# Altium footprint library Meshtastic.PcbLib: 7 footprints
Each footprint in its own frame and in the unit in brackets; x right, y up, seen from the top. Pads: shape width x height; smd on the part's side, far side on the other; paste and mask are expansions set on the pad; w line width, h text height; cw(c..) or ccw(c..) is an arc to the next point about the centre after c.
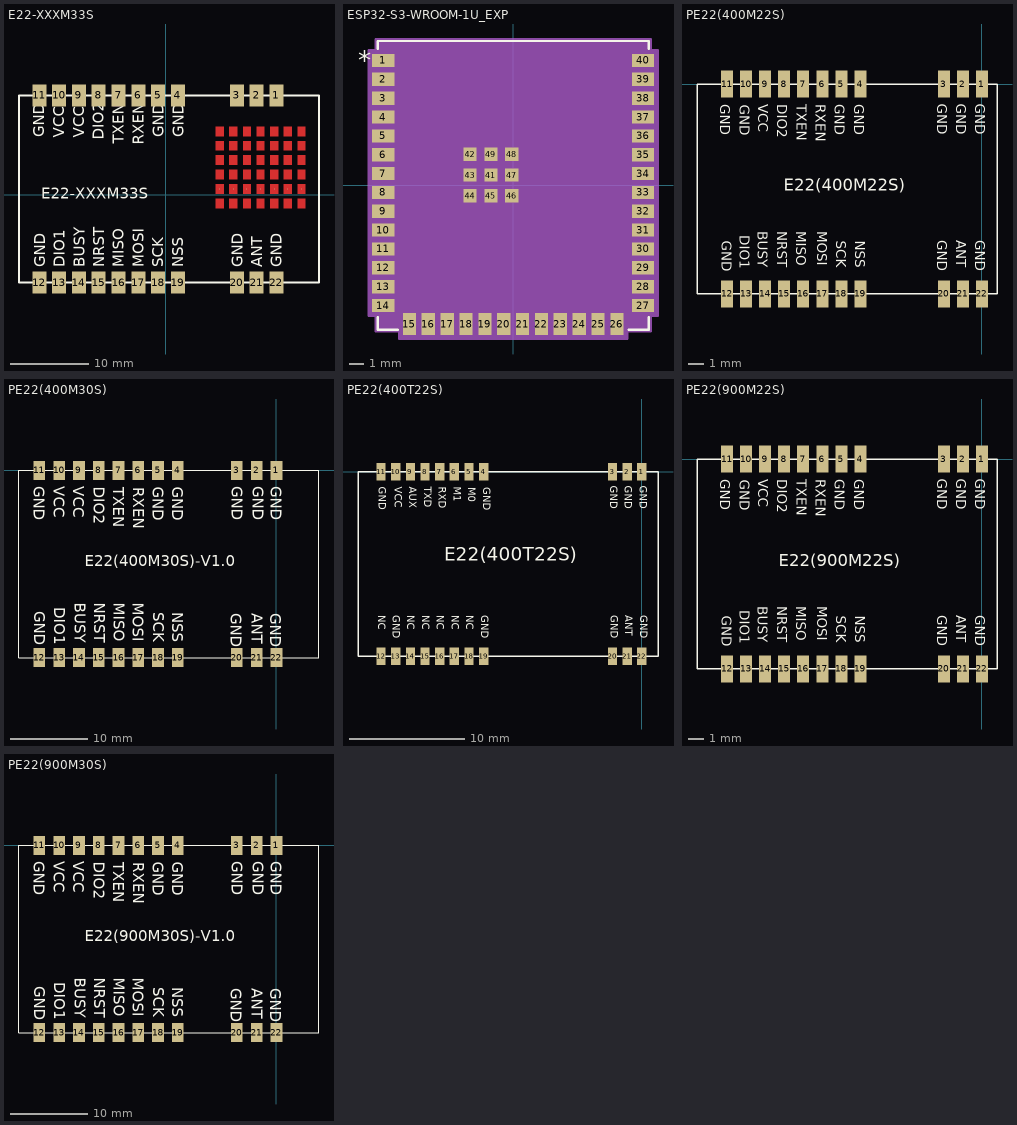
[diagram p0: the footprints below, top view; thin cyan lines are the x and y axes]

## E22-XXXM33S [mm]
pads (64):
  rect 1.8x2.8 smd mask+0: 1(14.19,12.725) 2(11.65,12.725) 3(9.11,12.725) 4(1.54,12.725) 5(-1,12.725) 6(-3.54,12.725) 7(-6.08,12.725) 8(-8.62,12.725) 9(-11.16,12.725) 10(-13.7,12.725) 11(-16.24,12.725) 12(-16.24,-11.275) 13(-13.7,-11.275) 14(-11.16,-11.275) 15(-8.62,-11.275) 16(-6.08,-11.275) 17(-3.54,-11.275) 18(-1,-11.275) 19(1.54,-11.275) 20(9.11,-11.275) 21(11.65,-11.275) 22(14.19,-11.275)
  round 0.025 smd mask+0.01: 22(6.9,-1.125) 22(6.9,0.725) 22(6.9,2.575) 22(6.9,4.425) 22(6.9,6.275) 22(6.9,8.125) 22(8.65,-1.125) 22(8.65,0.725) 22(8.65,2.575) 22(8.65,4.425) 22(8.65,6.275) 22(8.65,8.125) 22(10.4,-1.125) 22(10.4,0.725) 22(10.4,2.575) 22(10.4,4.425) 22(10.4,6.275) 22(10.4,8.125) 22(12.15,-1.125) 22(12.15,0.725) 22(12.15,2.575) 22(12.15,4.425) 22(12.15,6.275) 22(12.15,8.125) 22(13.9,-1.125) 22(13.9,0.725) 22(13.9,2.575) 22(13.9,4.425) 22(13.9,6.275) 22(13.9,8.125) 22(15.65,-1.125) 22(15.65,0.725) 22(15.65,2.575) 22(15.65,4.425) 22(15.65,6.275) 22(15.65,8.125) 22(17.4,-1.125) 22(17.4,0.725) 22(17.4,2.575) 22(17.4,4.425) 22(17.4,6.275) 22(17.4,8.125)
Top Layer:
  region: 9.15,7.525 8.15,7.525 8.15,8.725 9.15,8.725
  region: 10.9,7.525 9.9,7.525 9.9,8.725 10.9,8.725
  region: 12.65,7.525 11.65,7.525 11.65,8.725 12.65,8.725
  region: 14.4,7.525 13.4,7.525 13.4,8.725 14.4,8.725
  region: 17.9,7.525 16.9,7.525 16.9,8.725 17.9,8.725
  region: 9.15,5.675 8.15,5.675 8.15,6.875 9.15,6.875
  region: 10.9,5.675 9.9,5.675 9.9,6.875 10.9,6.875
  region: 12.65,5.675 11.65,5.675 11.65,6.875 12.65,6.875
  region: 14.4,5.675 13.4,5.675 13.4,6.875 14.4,6.875
  region: 16.15,5.675 15.15,5.675 15.15,6.875 16.15,6.875
  region: 17.9,5.675 16.9,5.675 16.9,6.875 17.9,6.875
  region: 9.15,3.825 8.15,3.825 8.15,5.025 9.15,5.025
  region: 10.9,3.825 9.9,3.825 9.9,5.025 10.9,5.025
  region: 12.65,3.825 11.65,3.825 11.65,5.025 12.65,5.025
  region: 14.4,3.825 13.4,3.825 13.4,5.025 14.4,5.025
  region: 16.15,3.825 15.15,3.825 15.15,5.025 16.15,5.025
  region: 17.9,3.825 16.9,3.825 16.9,5.025 17.9,5.025
  region: 9.15,1.975 8.15,1.975 8.15,3.175 9.15,3.175
  region: 10.9,1.975 9.9,1.975 9.9,3.175 10.9,3.175
  region: 12.65,1.975 11.65,1.975 11.65,3.175 12.65,3.175
  region: 14.4,1.975 13.4,1.975 13.4,3.175 14.4,3.175
  region: 16.15,1.975 15.15,1.975 15.15,3.175 16.15,3.175
  region: 17.9,1.975 16.9,1.975 16.9,3.175 17.9,3.175
  region: 9.15,0.125 8.15,0.125 8.15,1.325 9.15,1.325
  region: 9.15,-1.725 8.15,-1.725 8.15,-0.525 9.15,-0.525
  region: 10.9,0.125 9.9,0.125 9.9,1.325 10.9,1.325
  region: 10.9,-1.725 9.9,-1.725 9.9,-0.525 10.9,-0.525
  region: 12.65,0.125 11.65,0.125 11.65,1.325 12.65,1.325
  region: 12.65,-1.725 11.65,-1.725 11.65,-0.525 12.65,-0.525
  region: 14.4,0.125 13.4,0.125 13.4,1.325 14.4,1.325
  region: 14.4,-1.725 13.4,-1.725 13.4,-0.525 14.4,-0.525
  region: 16.15,0.125 15.15,0.125 15.15,1.325 16.15,1.325
  region: 16.15,-1.725 15.15,-1.725 15.15,-0.525 16.15,-0.525
  region: 17.9,0.125 16.9,0.125 16.9,1.325 17.9,1.325
  region: 17.9,-1.725 16.9,-1.725 16.9,-0.525 17.9,-0.525
  region: 7.4,7.525 6.4,7.525 6.4,8.725 7.4,8.725
  region: 16.15,7.525 15.15,7.525 15.15,8.725 16.15,8.725
  region: 7.4,5.675 6.4,5.675 6.4,6.875 7.4,6.875
  region: 7.4,3.825 6.4,3.825 6.4,5.025 7.4,5.025
  region: 7.4,1.975 6.4,1.975 6.4,3.175 7.4,3.175
  region: 7.4,0.125 6.4,0.125 6.4,1.325 7.4,1.325
  region: 7.4,-1.725 6.4,-1.725 6.4,-0.525 7.4,-0.525
Top Overlay:
  lines w0.254: -18.85,-11.275 19.65,-11.275 19.65,12.725 -18.85,12.725 -18.85,-11.275
  text "GND" at -15.608,7.364 h1.4
  text "GND" at 2.272,7.364 h1.4
  text "VCC" at -10.5,7.297 h1.4
  text "RXEN" at -2.837,6.411 h1.4
  text "VCC" at -13.054,7.297 h1.4
  text "DIO2" at -7.945,7.071 h1.4
  text "GND" at -0.282,7.364 h1.4
  text "TXEN" at -5.391,6.557 h1.4
  text "GND" at -15.494,-9.325 h1.4
  text "DIO1" at -12.964,-9.325 h1.4
  text "BUSY" at -10.435,-9.325 h1.4
  text "NRST" at -7.905,-9.325 h1.4
  text "MISO" at -5.376,-9.325 h1.4
  text "MOSI" at -2.846,-9.325 h1.4
  text "SCK" at -0.317,-9.325 h1.4
  text "NSS" at 2.213,-9.325 h1.4
  text "GND" at 9.847,-9.325 h1.4
  text "ANT" at 12.361,-9.325 h1.4
  text "GND" at 14.852,-9.325 h1.4
  text "E22-XXXM33S" at -16.002,-0.508 h1.4
Top Solder:
  region: 7.4,7.525 6.4,7.525 6.4,8.725 7.4,8.725

## ESP32-S3-WROOM-1U_EXP [mil]
pads (49):
  rect 59x35 smd paste+0 mask+0: 1(-344.49,331.1) 2(-344.49,281.1) 3(-344.49,231.1) 4(-344.49,181.1) 5(-344.49,131.1) 6(-344.49,81.1) 7(-344.49,31.1) 8(-344.49,-18.9) 9(-344.49,-68.9) 10(-344.49,-118.9) 11(-344.49,-168.9) 12(-344.49,-218.9) 13(-344.49,-268.9) 14(-344.49,-318.9) 27(344.49,-318.9) 28(344.49,-268.9) 29(344.49,-218.9) 30(344.49,-168.9) 31(344.49,-118.9) 32(344.49,-68.9) 33(344.49,-18.9) 34(344.49,31.1) 35(344.49,81.1) 36(344.49,131.1) 37(344.49,181.1) 38(344.49,231.1) 39(344.49,281.1) 40(344.49,331.1)
  rect 35x59 smd paste+0 mask+0: 15(-275,-368.11) 16(-225,-368.11) 17(-175,-368.11) 18(-125,-368.11) 19(-75,-368.11) 20(-25,-368.11) 21(25,-368.11) 22(75,-368.11) 23(125,-368.11) 24(175,-368.11) 25(225,-368.11) 26(275,-368.11)
  rect 35x35 smd paste+0 mask+0: 41(-59.06,27.17) 42(-114.17,82.28) 43(-114.17,27.17) 44(-114.17,-27.95) 45(-59.06,-27.95) 46(-3.94,-27.95) 47(-3.94,27.17) 48(-3.94,82.28) 49(-59.06,82.28)
Top Overlay:
  lines w6: -359.5,-349.5 -359.5,-383 -305.6,-383 ; -359.5,361.7 -359.5,383 359.5,383 359.5,361.7 ; 305.6,-383 359.5,-383 359.5,-349.5
  text ".Designator" at -137.5,-25 h50
  text "*" at -411.49,306.1 h50
Mechanical 13:
  lines w1: -354.5,328 -304.5,378 ; -354.5,-378 -354.5,378 354.5,378 354.5,-378 -354.5,-378
  text "*" at -302.49,306.1 h50
  text ".Designator" at -137.5,-25 h50
Mechanical 15:
  region: -364.5,-388 -302.5,-388 -302.5,-407.61 302.5,-407.61 302.5,-388 364.5,-388 364.5,-346.4 383.99,-346.4 383.99,358.6 364.5,358.6 364.5,388 -364.5,388 -364.5,358.6 -383.99,358.6 -383.99,-346.4 -364.5,-346.4
  lines w6: -383.99,-346.4 -364.5,-346.4 -364.5,-388 -302.5,-388 -302.5,-407.61 302.5,-407.61 302.5,-388 364.5,-388 364.5,-346.4 383.99,-346.4 383.99,358.6 364.5,358.6 364.5,388 -364.5,388 -364.5,358.6 -383.99,358.6 -383.99,-346.4

## PE22(400M22S) [mm] "20mm*14mm*2.8mm-S"
pads (22):
  rect 0.8x1.8 smd: 1(0,0) 2(-1.27,0) 3(-2.54,0) 4(-8.11,0) 5(-9.38,0) 6(-10.65,0) 7(-11.92,0) 8(-13.19,0) 9(-14.46,0) 10(-15.73,0) 11(-17,0) 12(-17,-14) 13(-15.73,-14) 14(-14.46,-14) 15(-13.19,-14) 16(-11.92,-14) 17(-10.65,-14) 18(-9.38,-14) 19(-8.11,-14) 20(-2.54,-14) 21(-1.27,-14) 22(0,-14)
Top Overlay:
  lines w0.1: -19,-14 1,-14 1,0 -19,0 -19,-14
  text "E22(400M22S)" at -13.208,-7.112 h0.8
  text "NSS" at -8.459,-10.444 h0.65
  text "SCK" at -9.729,-10.444 h0.65
  text "MOSI" at -10.999,-9.809 h0.65
  text "MISO" at -12.396,-9.809 h0.65
  text "NRST" at -13.666,-9.809 h0.65
  text "BUSY" at -14.936,-9.809 h0.65
  text "DIO1" at -16.14,-10.097 h0.65
  text "GND" at -17.349,-10.444 h0.65
  text "GND" at -2.996,-10.428 h0.65
  text "ANT" at -1.717,-10.428 h0.65
  text "GND" at -0.438,-10.428 h0.65
  text "GND" at -0.438,-1.323 h0.65
  text "GND" at -1.717,-1.323 h0.65
  text "GND" at -2.996,-1.323 h0.65
  text "GND" at -17.45,-1.353 h0.65
  text "GND" at -16.14,-1.373 h0.65
  text "VCC" at -14.922,-1.353 h0.65
  text "DIO2" at -13.643,-1.353 h0.65
  text "TXEN" at -12.364,-1.353 h0.65
  text "RXEN" at -11.086,-1.353 h0.65
  text "GND" at -9.807,-1.353 h0.65
  text "GND" at -8.528,-1.353 h0.65

## PE22(400M30S) [mm] "38.5mm*24mm*3.8mm-S"
pads (22):
  rect 1.5x2.5 smd: 1(0,0) 2(-2.54,0) 3(-5.08,0) 4(-12.65,0) 5(-15.19,0) 6(-17.73,0) 7(-20.27,0) 8(-22.81,0) 9(-25.35,0) 10(-27.89,0) 11(-30.43,0) 12(-30.43,-24) 13(-27.89,-24) 14(-25.35,-24) 15(-22.81,-24) 16(-20.27,-24) 17(-17.73,-24) 18(-15.19,-24) 19(-12.65,-24) 20(-5.08,-24) 21(-2.54,-24) 22(0,-24)
Top Overlay:
  lines w0.1: -33.04,-24 5.46,-24 5.46,0 -33.04,0 -33.04,-24
  text "E22(400M30S)-V1.0" at -24.599,-12.278 h1.4
  text "GND" at -13.366,-2.096 h1.4
  text "GND" at -15.899,-2.096 h1.4
  text "RXEN" at -18.402,-2.169 h1.4
  text "TXEN" at -20.935,-2.169 h1.4
  text "DIO2" at -23.438,-2.117 h1.4
  text "VCC" at -26.076,-2.051 h1.4
  text "VCC" at -28.61,-2.051 h1.4
  text "GND" at -31.143,-2.051 h1.4
  text "GND" at -5.743,-1.991 h1.4
  text "GND" at -3.07,-1.991 h1.4
  text "GND" at -0.748,-1.991 h1.4
  text "GND" at -0.775,-18.291 h1.4
  text "ANT" at -3.202,-18.291 h1.4
  text "GND" at -5.844,-18.291 h1.4
  text "GND" at -31.079,-18.064 h1.4
  text "DIO1" at -28.532,-17.552 h1.4
  text "BUSY" at -25.871,-16.979 h1.4
  text "NRST" at -23.406,-16.979 h1.4
  text "MISO" at -20.881,-16.979 h1.4
  text "MOSI" at -18.416,-16.979 h1.4
  text "SCK" at -15.816,-18.17 h1.4
  text "NSS" at -13.351,-18.17 h1.4

## PE22(400T22S) [mm] "26mm**16mm*3.23mm-S"
pads (22):
  rect 0.8x1.5 smd: 1(0,0) 2(-1.27,0) 3(-2.54,0) 4(-13.71,0) 5(-14.98,0) 6(-16.25,0) 7(-17.52,0) 8(-18.79,0) 9(-20.06,0) 10(-21.33,0) 11(-22.6,0) 12(-22.6,-16) 13(-21.33,-16) 14(-20.06,-16) 15(-18.79,-16) 16(-17.52,-16) 17(-16.25,-16) 18(-14.98,-16) 19(-13.71,-16) 20(-2.54,-16) 21(-1.27,-16) 22(0,-16)
Top Overlay:
  lines w0.127: -24.6,-16 -24.6,0 1.4,0 1.4,-16 -24.6,-16
  text "GND" at -0.408,-1.224 h1.1
  text "E22(400T22S)" at -17.107,-8.126 h2
  text "M0" at -15.257,-1.351 h1.1
  text "M1" at -16.536,-1.301 h1.1
  text "RXD" at -17.814,-1.301 h1.1
  text "TXD" at -19.093,-1.301 h1.1
  text "AUX" at -20.372,-1.301 h1.1
  text "VCC" at -21.651,-1.301 h1.1
  text "GND" at -23.01,-1.301 h1.1
  text "GND" at -13.97,-1.351 h1.1
  text "NC" at -23.06,-12.441 h1.1
  text "GND" at -21.811,-12.441 h1.1
  text "NC" at -20.532,-12.441 h1.1
  text "NC" at -19.253,-12.441 h1.1
  text "NC" at -17.974,-12.441 h1.1
  text "NC" at -16.696,-12.441 h1.1
  text "NC" at -15.417,-12.441 h1.1
  text "GND" at -14.138,-12.441 h1.1
  text "GND" at -0.358,-12.441 h1.1
  text "ANT" at -1.637,-12.441 h1.1
  text "GND" at -2.916,-12.441 h1.1
  text "GND" at -2.966,-1.224 h1.1
  text "GND" at -1.687,-1.224 h1.1

## PE22(900M22S) [mm] "20mm*14mm*2.8mm-S"
pads (22):
  rect 0.8x1.8 smd: 1(0,0) 2(-1.27,0) 3(-2.54,0) 4(-8.11,0) 5(-9.38,0) 6(-10.65,0) 7(-11.92,0) 8(-13.19,0) 9(-14.46,0) 10(-15.73,0) 11(-17,0) 12(-17,-14) 13(-15.73,-14) 14(-14.46,-14) 15(-13.19,-14) 16(-11.92,-14) 17(-10.65,-14) 18(-9.38,-14) 19(-8.11,-14) 20(-2.54,-14) 21(-1.27,-14) 22(0,-14)
Top Overlay:
  lines w0.1: -19,-14 1,-14 1,0 -19,0 -19,-14
  text "E22(900M22S)" at -13.539,-7.142 h0.8
  text "NSS" at -8.459,-10.444 h0.65
  text "SCK" at -9.729,-10.444 h0.65
  text "MOSI" at -10.999,-9.809 h0.65
  text "MISO" at -12.396,-9.809 h0.65
  text "NRST" at -13.666,-9.809 h0.65
  text "BUSY" at -14.936,-9.809 h0.65
  text "DIO1" at -16.14,-10.097 h0.65
  text "GND" at -17.349,-10.444 h0.65
  text "GND" at -2.996,-10.428 h0.65
  text "ANT" at -1.717,-10.428 h0.65
  text "GND" at -0.438,-10.428 h0.65
  text "GND" at -0.438,-1.323 h0.65
  text "GND" at -1.717,-1.323 h0.65
  text "GND" at -2.996,-1.323 h0.65
  text "GND" at -17.45,-1.353 h0.65
  text "GND" at -16.14,-1.373 h0.65
  text "VCC" at -14.922,-1.353 h0.65
  text "DIO2" at -13.643,-1.353 h0.65
  text "TXEN" at -12.364,-1.353 h0.65
  text "RXEN" at -11.086,-1.353 h0.65
  text "GND" at -9.807,-1.353 h0.65
  text "GND" at -8.528,-1.353 h0.65

## PE22(900M30S) [mm] "38.5mm*24mm*3.8mm-S"
pads (22):
  rect 1.5x2.5 smd: 1(0,0) 2(-2.54,0) 3(-5.08,0) 4(-12.65,0) 5(-15.19,0) 6(-17.73,0) 7(-20.27,0) 8(-22.81,0) 9(-25.35,0) 10(-27.89,0) 11(-30.43,0) 12(-30.43,-24) 13(-27.89,-24) 14(-25.35,-24) 15(-22.81,-24) 16(-20.27,-24) 17(-17.73,-24) 18(-15.19,-24) 19(-12.65,-24) 20(-5.08,-24) 21(-2.54,-24) 22(0,-24)
Top Overlay:
  lines w0.1: -33.04,-24 5.46,-24 5.46,0 -33.04,0 -33.04,-24
  text "E22(900M30S)-V1.0" at -24.599,-12.278 h1.4
  text "GND" at -13.366,-2.096 h1.4
  text "GND" at -15.899,-2.096 h1.4
  text "RXEN" at -18.402,-2.169 h1.4
  text "TXEN" at -20.935,-2.169 h1.4
  text "DIO2" at -23.438,-2.117 h1.4
  text "VCC" at -26.076,-2.051 h1.4
  text "VCC" at -28.61,-2.051 h1.4
  text "GND" at -31.143,-2.051 h1.4
  text "GND" at -5.743,-1.991 h1.4
  text "GND" at -3.07,-1.991 h1.4
  text "GND" at -0.748,-1.991 h1.4
  text "GND" at -0.775,-18.291 h1.4
  text "ANT" at -3.202,-18.291 h1.4
  text "GND" at -5.844,-18.291 h1.4
  text "GND" at -31.079,-18.064 h1.4
  text "DIO1" at -28.532,-17.552 h1.4
  text "BUSY" at -25.871,-16.979 h1.4
  text "NRST" at -23.406,-16.979 h1.4
  text "MISO" at -20.881,-16.979 h1.4
  text "MOSI" at -18.416,-16.979 h1.4
  text "SCK" at -15.816,-18.17 h1.4
  text "NSS" at -13.351,-18.17 h1.4